# Altium footprint library JST-ZH-4POS.PcbLib: 1 footprints
Each footprint in its own frame and in the unit in brackets; x right, y up, seen from the top. Pads: shape width x height; smd on the part's side, far side on the other; paste and mask are expansions set on the pad; w line width, h text height; cw(c..) or ccw(c..) is an arc to the next point about the centre after c.
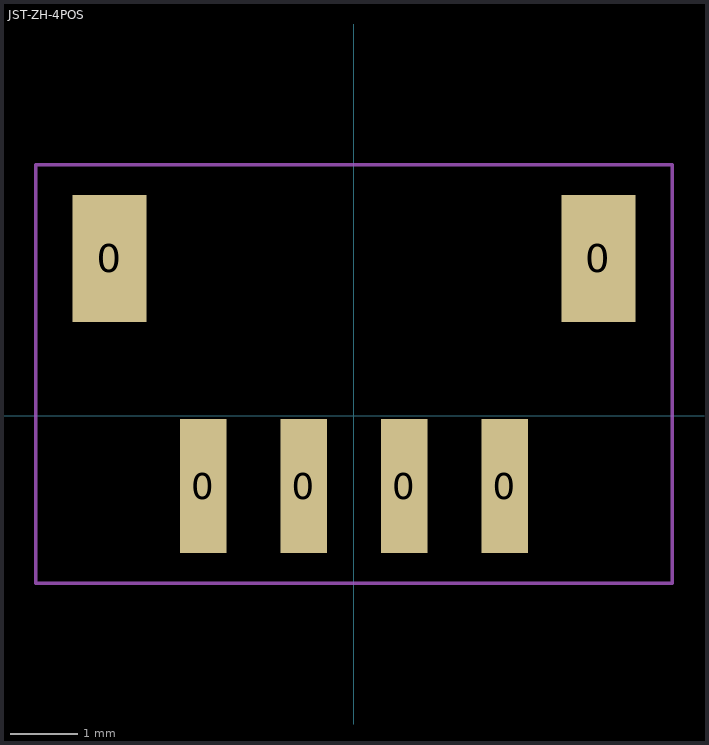
[diagram p0: the footprint, top view; thin cyan lines are the x and y axes]

## JST-ZH-4POS [mm] "JST 4POS SM R/A 1.5mm"
pads (6):
  rect 1.1x1.9 smd: 0(-3.65,2.35) 0(3.65,2.35)
  rect 0.7x2 smd: 0(-2.25,-1.05) 0(-0.75,-1.05) 0(0.75,-1.05) 0(2.25,-1.05)
Top Courtyard:
  lines w0.05: -4.75,-2.5 4.75,-2.5 4.75,3.75 -4.75,3.75 -4.75,-2.5